# Altium schematic symbol library Microchip Power Management Battery Management.SchLib: 224 symbols (part 4 of 7)
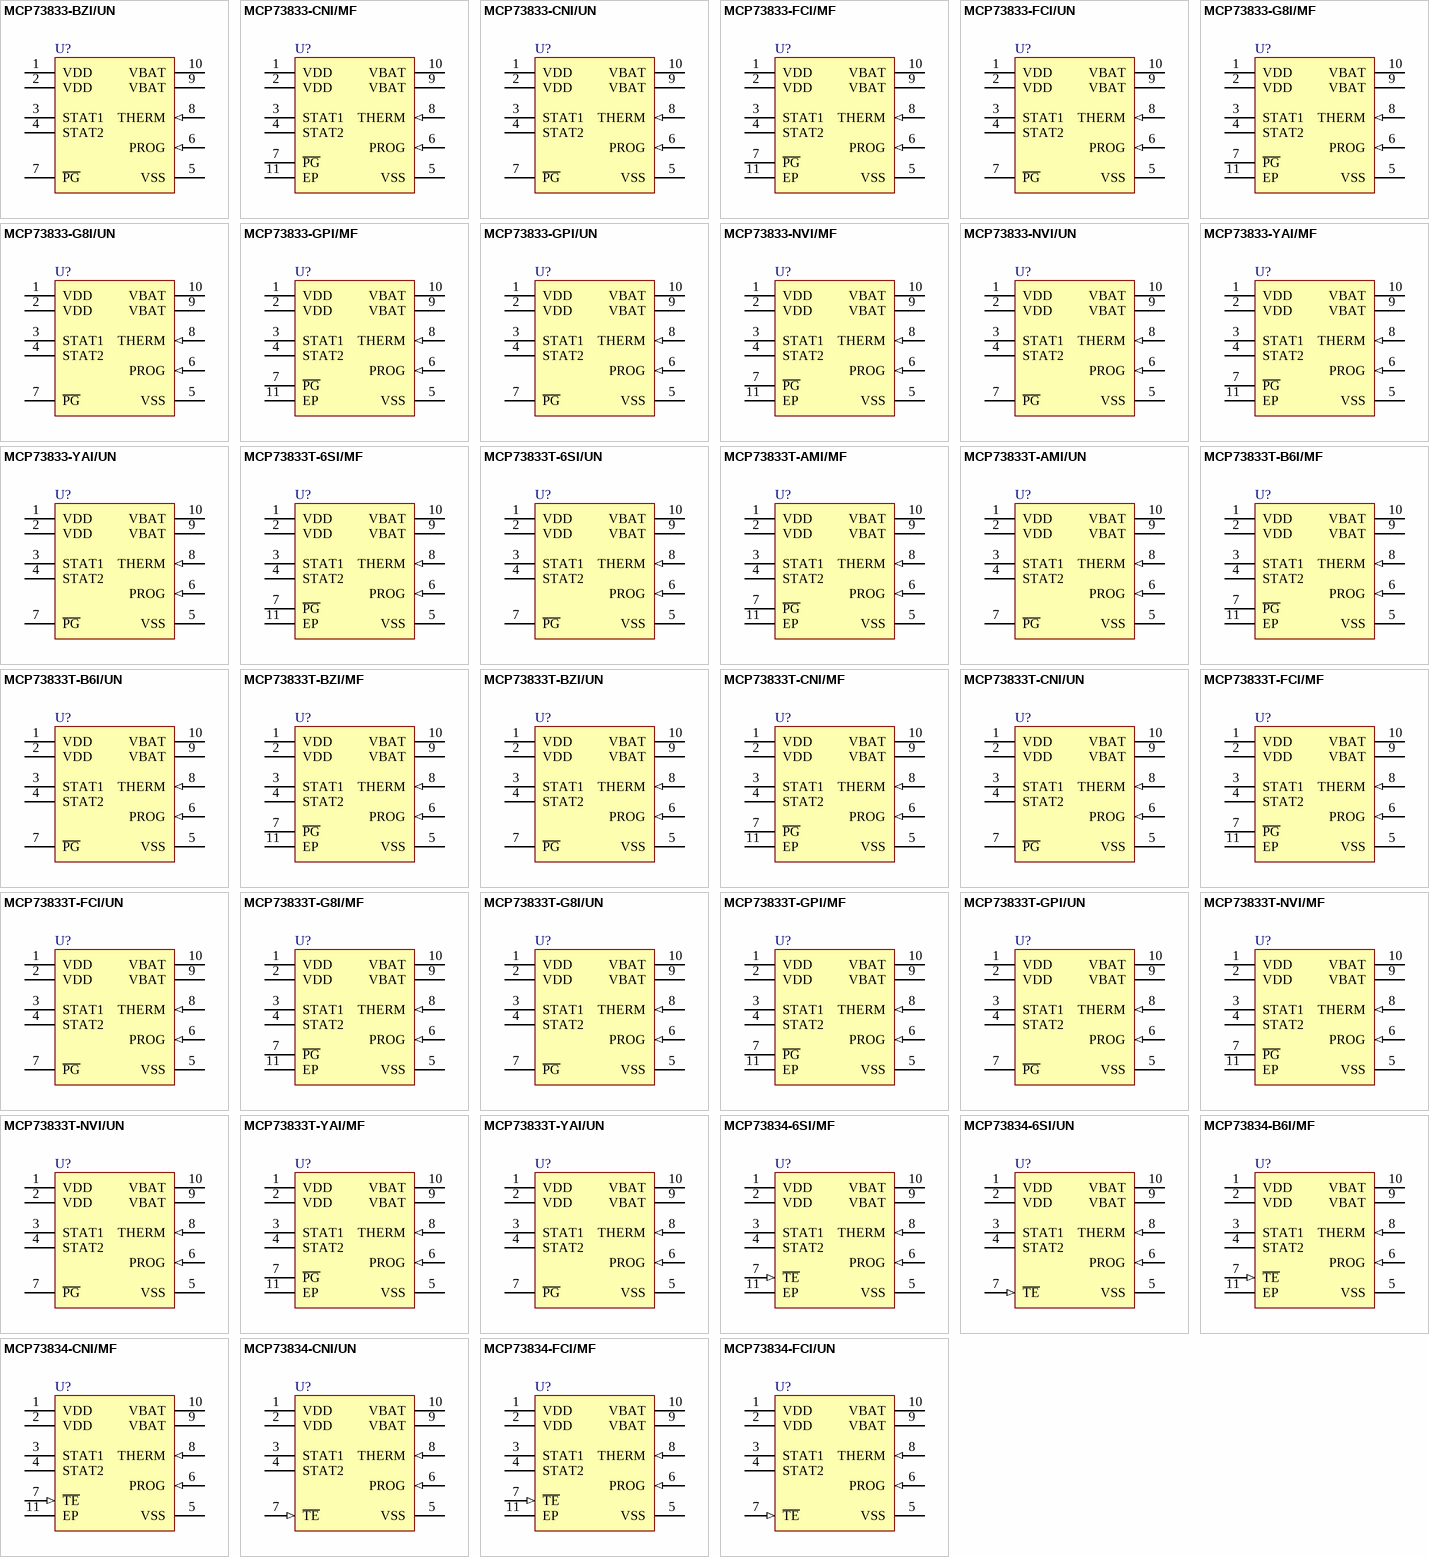
[diagram p9: symbols MCP73833-BZI/UN to MCP73834-FCI/UN]

## MCP73834-CNI/UN
designator U?
Stand-Alone Linear Li-Ion/Li-Polymer Charge Management Controller with Timer Enable, 4.2V, 10-Pin MSOP, Industrial Temperature; Manufacturer: Microchip; PartNumber: MCP73834-CNI/UN; DatasheetVersion: revB, May-2009; PackageVersion: revBB, Aug-2009; PackageReference: MSOP-UN10; PackageDescription: 10-Lead Plastic Micro Small Outline Package (UN) [MSOP]; Supplier 1: Digi-Key; Supplier Part Number 1: MCP73834-CNI/UN-ND; Supplier 2: Mouser; Supplier Part Number 2: 579-MCP73834-CNI/UN; Mounting Technology: Surface Mount; ComponentLink1Description: Manufacturer URL; ComponentLink1URL: http://www.microchip.com/; ComponentLink2Description: Datasheet; ComponentLink2URL: http://ww1.microchip.com/downloads/en/DeviceDoc/22005b.pdf; ComponentLink3Description: Package Specification; ComponentLink3URL: http://www.microchip.com/stellent/groups/techpub_sg/documents/packagingspec/en012702.pdf
footprint MSOP-UN10_N (TSSOP, 10-Leads, Body 3x3mm, Pitch 0.5mm, IPC Medium Density)
footprint MSOP-UN10_L (TSSOP, 10-Leads, Body 3x3mm, Pitch 0.5mm, IPC High Density)
footprint MSOP-UN10_M (TSSOP, 10-Leads, Body 3x3mm, Pitch 0.5mm, IPC Low Density)
pins: 1 VDD (power), 2 VDD (power), 3 STAT1 (oc), 4 STAT2 (oc), 5 VSS (power), 6 PROG (in), 7 ~{TE} (in), 8 THERM (in), 9 VBAT (power), 10 VBAT (power)

## MCP73834-FCI/MF
designator U?
Stand-Alone Linear Li-Ion/Li-Polymer Charge Management Controller with Timer Enable, 4.2V, 10-Pin DFN, Industrial Temperature; Manufacturer: Microchip; PartNumber: MCP73834-FCI/MF; DatasheetVersion: revB, May-2009; PackageVersion: revBB, Aug-2009; PackageReference: DFN-MF10; PackageDescription: 10-Lead Plastic Dual Flat, No Lead Package (MF) - 3x3x0.9mm Body [DFN]; Supplier 1: Digi-Key; Supplier Part Number 1: MCP73834-FCI/MF-ND; Supplier 2: Mouser; Supplier Part Number 2: 579-MCP73834-FCI/MF; Mounting Technology: Surface Mount; ComponentLink1Description: Manufacturer URL; ComponentLink1URL: http://www.microchip.com/; ComponentLink2Description: Datasheet; ComponentLink2URL: http://ww1.microchip.com/downloads/en/DeviceDoc/22005b.pdf; ComponentLink3Description: Package Specification; ComponentLink3URL: http://www.microchip.com/stellent/groups/techpub_sg/documents/packagingspec/en012702.pdf
footprint DFN-MF10 (SON, 10-Leads, Body 3x3mm, Pitch 0.5mm, Microchip Recommended)
pins: 1 VDD (power), 2 VDD (power), 3 STAT1 (oc), 4 STAT2 (oc), 5 VSS (power), 6 PROG (in), 7 ~{TE} (in), 8 THERM (in), 9 VBAT (power), 10 VBAT (power), 11 EP (power)

## MCP73834-FCI/UN
designator U?
Stand-Alone Linear Li-Ion/Li-Polymer Charge Management Controller with Timer Enable, 4.2V, 10-Pin MSOP, Industrial Temperature; Manufacturer: Microchip; PartNumber: MCP73834-FCI/UN; DatasheetVersion: revB, May-2009; PackageVersion: revBB, Aug-2009; PackageReference: MSOP-UN10; PackageDescription: 10-Lead Plastic Micro Small Outline Package (UN) [MSOP]; Supplier 1: Digi-Key; Supplier Part Number 1: MCP73834-FCI/UN-ND; Supplier 2: Farnell; Supplier Part Number 2: 1332162; Supplier 3: Newark; Supplier Part Number 3: 34M7503; Supplier 4: Mouser; Supplier Part Number 4: 579-MCP73834-FCI/UN; Mounting Technology: Surface Mount; ComponentLink1Description: Manufacturer URL; ComponentLink1URL: http://www.microchip.com/; ComponentLink2Description: Datasheet; ComponentLink2URL: http://ww1.microchip.com/downloads/en/DeviceDoc/22005b.pdf; ComponentLink3Description: Package Specification; ComponentLink3URL: http://www.microchip.com/stellent/groups/techpub_sg/documents/packagingspec/en012702.pdf
footprint MSOP-UN10_N (TSSOP, 10-Leads, Body 3x3mm, Pitch 0.5mm, IPC Medium Density)
footprint MSOP-UN10_L (TSSOP, 10-Leads, Body 3x3mm, Pitch 0.5mm, IPC High Density)
footprint MSOP-UN10_M (TSSOP, 10-Leads, Body 3x3mm, Pitch 0.5mm, IPC Low Density)
pins: 1 VDD (power), 2 VDD (power), 3 STAT1 (oc), 4 STAT2 (oc), 5 VSS (power), 6 PROG (in), 7 ~{TE} (in), 8 THERM (in), 9 VBAT (power), 10 VBAT (power)

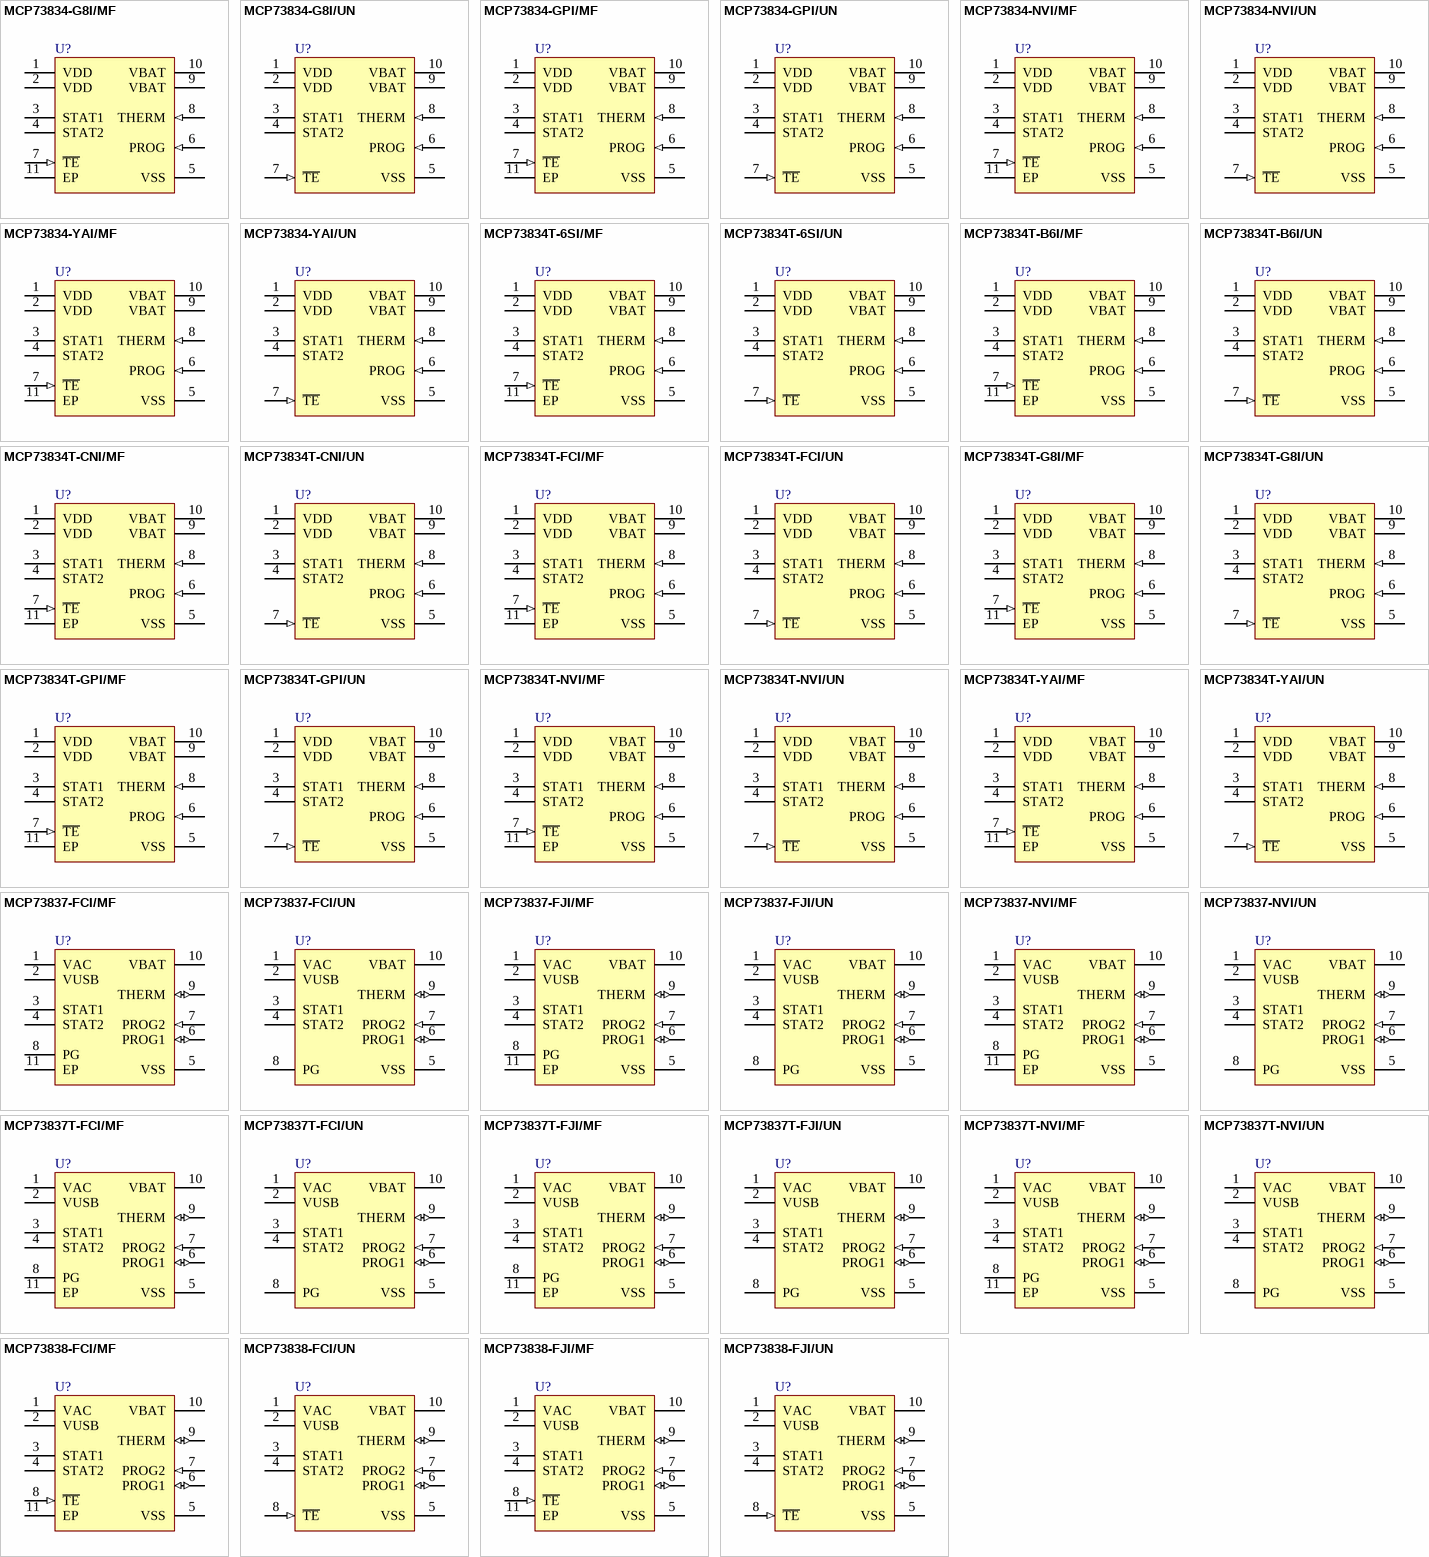
[diagram p3: symbols MCP73834-G8I/MF to MCP73838-FJI/UN]

## MCP73834-G8I/MF
designator U?
Stand-Alone Linear Li-Ion/Li-Polymer Charge Management Controller with Timer Enable, 4.2V, 10-Pin DFN, Industrial Temperature; Manufacturer: Microchip; PartNumber: MCP73834-G8I/MF; DatasheetVersion: revB, May-2009; PackageVersion: revBB, Aug-2009; PackageReference: DFN-MF10; PackageDescription: 10-Lead Plastic Dual Flat, No Lead Package (MF) - 3x3x0.9mm Body [DFN]; Mounting Technology: Surface Mount; ComponentLink1Description: Manufacturer URL; ComponentLink1URL: http://www.microchip.com/; ComponentLink2Description: Datasheet; ComponentLink2URL: http://ww1.microchip.com/downloads/en/DeviceDoc/22005b.pdf; ComponentLink3Description: Package Specification; ComponentLink3URL: http://www.microchip.com/stellent/groups/techpub_sg/documents/packagingspec/en012702.pdf
footprint DFN-MF10 (SON, 10-Leads, Body 3x3mm, Pitch 0.5mm, Microchip Recommended)
pins: 1 VDD (power), 2 VDD (power), 3 STAT1 (oc), 4 STAT2 (oc), 5 VSS (power), 6 PROG (in), 7 ~{TE} (in), 8 THERM (in), 9 VBAT (power), 10 VBAT (power), 11 EP (power)

## MCP73834-G8I/UN
designator U?
Stand-Alone Linear Li-Ion/Li-Polymer Charge Management Controller with Timer Enable, 4.2V, 10-Pin MSOP, Industrial Temperature; Manufacturer: Microchip; PartNumber: MCP73834-G8I/UN; DatasheetVersion: revB, May-2009; PackageVersion: revBB, Aug-2009; PackageReference: MSOP-UN10; PackageDescription: 10-Lead Plastic Micro Small Outline Package (UN) [MSOP]; Mounting Technology: Surface Mount; ComponentLink1Description: Manufacturer URL; ComponentLink1URL: http://www.microchip.com/; ComponentLink2Description: Datasheet; ComponentLink2URL: http://ww1.microchip.com/downloads/en/DeviceDoc/22005b.pdf; ComponentLink3Description: Package Specification; ComponentLink3URL: http://www.microchip.com/stellent/groups/techpub_sg/documents/packagingspec/en012702.pdf
footprint MSOP-UN10_N (TSSOP, 10-Leads, Body 3x3mm, Pitch 0.5mm, IPC Medium Density)
footprint MSOP-UN10_L (TSSOP, 10-Leads, Body 3x3mm, Pitch 0.5mm, IPC High Density)
footprint MSOP-UN10_M (TSSOP, 10-Leads, Body 3x3mm, Pitch 0.5mm, IPC Low Density)
pins: 1 VDD (power), 2 VDD (power), 3 STAT1 (oc), 4 STAT2 (oc), 5 VSS (power), 6 PROG (in), 7 ~{TE} (in), 8 THERM (in), 9 VBAT (power), 10 VBAT (power)

## MCP73834-GPI/MF
designator U?
Stand-Alone Linear Li-Ion/Li-Polymer Charge Management Controller with Timer Enable, 4.2V, 10-Pin DFN, Industrial Temperature; Manufacturer: Microchip; PartNumber: MCP73834-GPI/MF; DatasheetVersion: revB, May-2009; PackageVersion: revBB, Aug-2009; PackageReference: DFN-MF10; PackageDescription: 10-Lead Plastic Dual Flat, No Lead Package (MF) - 3x3x0.9mm Body [DFN]; Supplier 1: Digi-Key; Supplier Part Number 1: MCP73834-GPI/MF-ND; Supplier 2: Mouser; Supplier Part Number 2: 579-MCP73834-GPI/MF; Mounting Technology: Surface Mount; ComponentLink1Description: Manufacturer URL; ComponentLink1URL: http://www.microchip.com/; ComponentLink2Description: Datasheet; ComponentLink2URL: http://ww1.microchip.com/downloads/en/DeviceDoc/22005b.pdf; ComponentLink3Description: Package Specification; ComponentLink3URL: http://www.microchip.com/stellent/groups/techpub_sg/documents/packagingspec/en012702.pdf
footprint DFN-MF10 (SON, 10-Leads, Body 3x3mm, Pitch 0.5mm, Microchip Recommended)
pins: 1 VDD (power), 2 VDD (power), 3 STAT1 (oc), 4 STAT2 (oc), 5 VSS (power), 6 PROG (in), 7 ~{TE} (in), 8 THERM (in), 9 VBAT (power), 10 VBAT (power), 11 EP (power)

## MCP73834-GPI/UN
designator U?
Stand-Alone Linear Li-Ion/Li-Polymer Charge Management Controller with Timer Enable, 4.2V, 10-Pin MSOP, Industrial Temperature; Manufacturer: Microchip; PartNumber: MCP73834-GPI/UN; DatasheetVersion: revB, May-2009; PackageVersion: revBB, Aug-2009; PackageReference: MSOP-UN10; PackageDescription: 10-Lead Plastic Micro Small Outline Package (UN) [MSOP]; Supplier 1: Digi-Key; Supplier Part Number 1: MCP73834-GPI/UN-ND; Supplier 2: Mouser; Supplier Part Number 2: 579-MCP73834-GPI/UN; Mounting Technology: Surface Mount; ComponentLink1Description: Manufacturer URL; ComponentLink1URL: http://www.microchip.com/; ComponentLink2Description: Datasheet; ComponentLink2URL: http://ww1.microchip.com/downloads/en/DeviceDoc/22005b.pdf; ComponentLink3Description: Package Specification; ComponentLink3URL: http://www.microchip.com/stellent/groups/techpub_sg/documents/packagingspec/en012702.pdf
footprint MSOP-UN10_N (TSSOP, 10-Leads, Body 3x3mm, Pitch 0.5mm, IPC Medium Density)
footprint MSOP-UN10_L (TSSOP, 10-Leads, Body 3x3mm, Pitch 0.5mm, IPC High Density)
footprint MSOP-UN10_M (TSSOP, 10-Leads, Body 3x3mm, Pitch 0.5mm, IPC Low Density)
pins: 1 VDD (power), 2 VDD (power), 3 STAT1 (oc), 4 STAT2 (oc), 5 VSS (power), 6 PROG (in), 7 ~{TE} (in), 8 THERM (in), 9 VBAT (power), 10 VBAT (power)

## MCP73834-NVI/MF
designator U?
Stand-Alone Linear Li-Ion/Li-Polymer Charge Management Controller with Timer Enable, 4.35V, 10-Pin DFN, Industrial Temperature; Manufacturer: Microchip; PartNumber: MCP73834-NVI/MF; DatasheetVersion: revB, May-2009; PackageVersion: revBB, Aug-2009; PackageReference: DFN-MF10; PackageDescription: 10-Lead Plastic Dual Flat, No Lead Package (MF) - 3x3x0.9mm Body [DFN]; Supplier 1: Digi-Key; Supplier Part Number 1: MCP73834-NVI/MF-ND; Supplier 2: Mouser; Supplier Part Number 2: 579-MCP73834-NVI/MF; Mounting Technology: Surface Mount; ComponentLink1Description: Manufacturer URL; ComponentLink1URL: http://www.microchip.com/; ComponentLink2Description: Datasheet; ComponentLink2URL: http://ww1.microchip.com/downloads/en/DeviceDoc/22005b.pdf; ComponentLink3Description: Package Specification; ComponentLink3URL: http://www.microchip.com/stellent/groups/techpub_sg/documents/packagingspec/en012702.pdf
footprint DFN-MF10 (SON, 10-Leads, Body 3x3mm, Pitch 0.5mm, Microchip Recommended)
pins: 1 VDD (power), 2 VDD (power), 3 STAT1 (oc), 4 STAT2 (oc), 5 VSS (power), 6 PROG (in), 7 ~{TE} (in), 8 THERM (in), 9 VBAT (power), 10 VBAT (power), 11 EP (power)

## MCP73834-NVI/UN
designator U?
Stand-Alone Linear Li-Ion/Li-Polymer Charge Management Controller with Timer Enable, 4.35V, 10-Pin MSOP, Industrial Temperature; Manufacturer: Microchip; PartNumber: MCP73834-NVI/UN; DatasheetVersion: revB, May-2009; PackageVersion: revBB, Aug-2009; PackageReference: MSOP-UN10; PackageDescription: 10-Lead Plastic Micro Small Outline Package (UN) [MSOP]; Supplier 1: Digi-Key; Supplier Part Number 1: MCP73834-NVI/UN-ND; Supplier 2: Mouser; Supplier Part Number 2: 579-MCP73834-NVI/UN; Mounting Technology: Surface Mount; ComponentLink1Description: Manufacturer URL; ComponentLink1URL: http://www.microchip.com/; ComponentLink2Description: Datasheet; ComponentLink2URL: http://ww1.microchip.com/downloads/en/DeviceDoc/22005b.pdf; ComponentLink3Description: Package Specification; ComponentLink3URL: http://www.microchip.com/stellent/groups/techpub_sg/documents/packagingspec/en012702.pdf
footprint MSOP-UN10_N (TSSOP, 10-Leads, Body 3x3mm, Pitch 0.5mm, IPC Medium Density)
footprint MSOP-UN10_L (TSSOP, 10-Leads, Body 3x3mm, Pitch 0.5mm, IPC High Density)
footprint MSOP-UN10_M (TSSOP, 10-Leads, Body 3x3mm, Pitch 0.5mm, IPC Low Density)
pins: 1 VDD (power), 2 VDD (power), 3 STAT1 (oc), 4 STAT2 (oc), 5 VSS (power), 6 PROG (in), 7 ~{TE} (in), 8 THERM (in), 9 VBAT (power), 10 VBAT (power)

## MCP73834-YAI/MF
designator U?
Stand-Alone Linear Li-Ion/Li-Polymer Charge Management Controller with Timer Enable, 4.2V, 10-Pin DFN, Industrial Temperature; Manufacturer: Microchip; PartNumber: MCP73834-YAI/MF; DatasheetVersion: revB, May-2009; PackageVersion: revBB, Aug-2009; PackageReference: DFN-MF10; PackageDescription: 10-Lead Plastic Dual Flat, No Lead Package (MF) - 3x3x0.9mm Body [DFN]; Mounting Technology: Surface Mount; ComponentLink1Description: Manufacturer URL; ComponentLink1URL: http://www.microchip.com/; ComponentLink2Description: Datasheet; ComponentLink2URL: http://ww1.microchip.com/downloads/en/DeviceDoc/22005b.pdf; ComponentLink3Description: Package Specification; ComponentLink3URL: http://www.microchip.com/stellent/groups/techpub_sg/documents/packagingspec/en012702.pdf
footprint DFN-MF10 (SON, 10-Leads, Body 3x3mm, Pitch 0.5mm, Microchip Recommended)
pins: 1 VDD (power), 2 VDD (power), 3 STAT1 (oc), 4 STAT2 (oc), 5 VSS (power), 6 PROG (in), 7 ~{TE} (in), 8 THERM (in), 9 VBAT (power), 10 VBAT (power), 11 EP (power)

## MCP73834-YAI/UN
designator U?
Stand-Alone Linear Li-Ion/Li-Polymer Charge Management Controller with Timer Enable, 4.2V, 10-Pin MSOP, Industrial Temperature; Manufacturer: Microchip; PartNumber: MCP73834-YAI/UN; DatasheetVersion: revB, May-2009; PackageVersion: revBB, Aug-2009; PackageReference: MSOP-UN10; PackageDescription: 10-Lead Plastic Micro Small Outline Package (UN) [MSOP]; Mounting Technology: Surface Mount; ComponentLink1Description: Manufacturer URL; ComponentLink1URL: http://www.microchip.com/; ComponentLink2Description: Datasheet; ComponentLink2URL: http://ww1.microchip.com/downloads/en/DeviceDoc/22005b.pdf; ComponentLink3Description: Package Specification; ComponentLink3URL: http://www.microchip.com/stellent/groups/techpub_sg/documents/packagingspec/en012702.pdf
footprint MSOP-UN10_N (TSSOP, 10-Leads, Body 3x3mm, Pitch 0.5mm, IPC Medium Density)
footprint MSOP-UN10_L (TSSOP, 10-Leads, Body 3x3mm, Pitch 0.5mm, IPC High Density)
footprint MSOP-UN10_M (TSSOP, 10-Leads, Body 3x3mm, Pitch 0.5mm, IPC Low Density)
pins: 1 VDD (power), 2 VDD (power), 3 STAT1 (oc), 4 STAT2 (oc), 5 VSS (power), 6 PROG (in), 7 ~{TE} (in), 8 THERM (in), 9 VBAT (power), 10 VBAT (power)

## MCP73834T-6SI/MF
designator U?
Stand-Alone Linear Li-Ion/Li-Polymer Charge Management Controller with Timer Enable, 4.2V, 10-Pin DFN, Industrial Temperature, Tape and Reel; Manufacturer: Microchip; PartNumber: MCP73834T-6SI/MF; DatasheetVersion: revB, May-2009; PackageVersion: revBB, Aug-2009; PackageReference: DFN-MF10; PackageDescription: 10-Lead Plastic Dual Flat, No Lead Package (MF) - 3x3x0.9mm Body [DFN]; Mounting Technology: Surface Mount; ComponentLink1Description: Manufacturer URL; ComponentLink1URL: http://www.microchip.com/; ComponentLink2Description: Datasheet; ComponentLink2URL: http://ww1.microchip.com/downloads/en/DeviceDoc/22005b.pdf; ComponentLink3Description: Package Specification; ComponentLink3URL: http://www.microchip.com/stellent/groups/techpub_sg/documents/packagingspec/en012702.pdf
footprint DFN-MF10 (SON, 10-Leads, Body 3x3mm, Pitch 0.5mm, Microchip Recommended)
pins: 1 VDD (power), 2 VDD (power), 3 STAT1 (oc), 4 STAT2 (oc), 5 VSS (power), 6 PROG (in), 7 ~{TE} (in), 8 THERM (in), 9 VBAT (power), 10 VBAT (power), 11 EP (power)

## MCP73834T-6SI/UN
designator U?
Stand-Alone Linear Li-Ion/Li-Polymer Charge Management Controller with Timer Enable, 4.2V, 10-Pin MSOP, Industrial Temperature, Tape and Reel; Manufacturer: Microchip; PartNumber: MCP73834T-6SI/UN; DatasheetVersion: revB, May-2009; PackageVersion: revBB, Aug-2009; PackageReference: MSOP-UN10; PackageDescription: 10-Lead Plastic Micro Small Outline Package (UN) [MSOP]; Mounting Technology: Surface Mount; ComponentLink1Description: Manufacturer URL; ComponentLink1URL: http://www.microchip.com/; ComponentLink2Description: Datasheet; ComponentLink2URL: http://ww1.microchip.com/downloads/en/DeviceDoc/22005b.pdf; ComponentLink3Description: Package Specification; ComponentLink3URL: http://www.microchip.com/stellent/groups/techpub_sg/documents/packagingspec/en012702.pdf
footprint MSOP-UN10_N (TSSOP, 10-Leads, Body 3x3mm, Pitch 0.5mm, IPC Medium Density)
footprint MSOP-UN10_L (TSSOP, 10-Leads, Body 3x3mm, Pitch 0.5mm, IPC High Density)
footprint MSOP-UN10_M (TSSOP, 10-Leads, Body 3x3mm, Pitch 0.5mm, IPC Low Density)
pins: 1 VDD (power), 2 VDD (power), 3 STAT1 (oc), 4 STAT2 (oc), 5 VSS (power), 6 PROG (in), 7 ~{TE} (in), 8 THERM (in), 9 VBAT (power), 10 VBAT (power)

## MCP73834T-B6I/MF
designator U?
Stand-Alone Linear Li-Ion/Li-Polymer Charge Management Controller with Timer Enable, 4.2V, 10-Pin DFN, Industrial Temperature, Tape and Reel; Manufacturer: Microchip; PartNumber: MCP73834T-B6I/MF; DatasheetVersion: revB, May-2009; PackageVersion: revBB, Aug-2009; PackageReference: DFN-MF10; PackageDescription: 10-Lead Plastic Dual Flat, No Lead Package (MF) - 3x3x0.9mm Body [DFN]; Supplier 1: Digi-Key; Supplier Part Number 1: MCP73834T-B6I/MF-ND; Supplier 2: Mouser; Supplier Part Number 2: 579-MCP73834T-B6I/MF; Mounting Technology: Surface Mount; ComponentLink1Description: Manufacturer URL; ComponentLink1URL: http://www.microchip.com/; ComponentLink2Description: Datasheet; ComponentLink2URL: http://ww1.microchip.com/downloads/en/DeviceDoc/22005b.pdf; ComponentLink3Description: Package Specification; ComponentLink3URL: http://www.microchip.com/stellent/groups/techpub_sg/documents/packagingspec/en012702.pdf
footprint DFN-MF10 (SON, 10-Leads, Body 3x3mm, Pitch 0.5mm, Microchip Recommended)
pins: 1 VDD (power), 2 VDD (power), 3 STAT1 (oc), 4 STAT2 (oc), 5 VSS (power), 6 PROG (in), 7 ~{TE} (in), 8 THERM (in), 9 VBAT (power), 10 VBAT (power), 11 EP (power)

## MCP73834T-B6I/UN
designator U?
Stand-Alone Linear Li-Ion/Li-Polymer Charge Management Controller with Timer Enable, 4.2V, 10-Pin MSOP, Industrial Temperature, Tape and Reel; Manufacturer: Microchip; PartNumber: MCP73834T-B6I/UN; DatasheetVersion: revB, May-2009; PackageVersion: revBB, Aug-2009; PackageReference: MSOP-UN10; PackageDescription: 10-Lead Plastic Micro Small Outline Package (UN) [MSOP]; Supplier 1: Digi-Key; Supplier Part Number 1: MCP73834T-B6I/UN-ND; Supplier 2: Mouser; Supplier Part Number 2: 579-MCP73834T-B6I/UN; Mounting Technology: Surface Mount; ComponentLink1Description: Manufacturer URL; ComponentLink1URL: http://www.microchip.com/; ComponentLink2Description: Datasheet; ComponentLink2URL: http://ww1.microchip.com/downloads/en/DeviceDoc/22005b.pdf; ComponentLink3Description: Package Specification; ComponentLink3URL: http://www.microchip.com/stellent/groups/techpub_sg/documents/packagingspec/en012702.pdf
footprint MSOP-UN10_N (TSSOP, 10-Leads, Body 3x3mm, Pitch 0.5mm, IPC Medium Density)
footprint MSOP-UN10_L (TSSOP, 10-Leads, Body 3x3mm, Pitch 0.5mm, IPC High Density)
footprint MSOP-UN10_M (TSSOP, 10-Leads, Body 3x3mm, Pitch 0.5mm, IPC Low Density)
pins: 1 VDD (power), 2 VDD (power), 3 STAT1 (oc), 4 STAT2 (oc), 5 VSS (power), 6 PROG (in), 7 ~{TE} (in), 8 THERM (in), 9 VBAT (power), 10 VBAT (power)

## MCP73834T-CNI/MF
designator U?
Stand-Alone Linear Li-Ion/Li-Polymer Charge Management Controller with Timer Enable, 4.2V, 10-Pin DFN, Industrial Temperature, Tape and Reel; Manufacturer: Microchip; PartNumber: MCP73834T-CNI/MF; DatasheetVersion: revB, May-2009; PackageVersion: revBB, Aug-2009; PackageReference: DFN-MF10; PackageDescription: 10-Lead Plastic Dual Flat, No Lead Package (MF) - 3x3x0.9mm Body [DFN]; Supplier 1: Digi-Key; Supplier Part Number 1: MCP73834T-CNI/MF-ND; Supplier 2: Mouser; Supplier Part Number 2: 579-MCP73834T-CNI/MF; Mounting Technology: Surface Mount; ComponentLink1Description: Manufacturer URL; ComponentLink1URL: http://www.microchip.com/; ComponentLink2Description: Datasheet; ComponentLink2URL: http://ww1.microchip.com/downloads/en/DeviceDoc/22005b.pdf; ComponentLink3Description: Package Specification; ComponentLink3URL: http://www.microchip.com/stellent/groups/techpub_sg/documents/packagingspec/en012702.pdf
footprint DFN-MF10 (SON, 10-Leads, Body 3x3mm, Pitch 0.5mm, Microchip Recommended)
pins: 1 VDD (power), 2 VDD (power), 3 STAT1 (oc), 4 STAT2 (oc), 5 VSS (power), 6 PROG (in), 7 ~{TE} (in), 8 THERM (in), 9 VBAT (power), 10 VBAT (power), 11 EP (power)

## MCP73834T-CNI/UN
designator U?
Stand-Alone Linear Li-Ion/Li-Polymer Charge Management Controller with Timer Enable, 4.2V, 10-Pin MSOP, Industrial Temperature, Tape and Reel; Manufacturer: Microchip; PartNumber: MCP73834T-CNI/UN; DatasheetVersion: revB, May-2009; PackageVersion: revBB, Aug-2009; PackageReference: MSOP-UN10; PackageDescription: 10-Lead Plastic Micro Small Outline Package (UN) [MSOP]; Supplier 1: Digi-Key; Supplier Part Number 1: MCP73834T-CNI/UN-ND; Supplier 2: Mouser; Supplier Part Number 2: 579-MCP73834T-CNI/UN; Mounting Technology: Surface Mount; ComponentLink1Description: Manufacturer URL; ComponentLink1URL: http://www.microchip.com/; ComponentLink2Description: Datasheet; ComponentLink2URL: http://ww1.microchip.com/downloads/en/DeviceDoc/22005b.pdf; ComponentLink3Description: Package Specification; ComponentLink3URL: http://www.microchip.com/stellent/groups/techpub_sg/documents/packagingspec/en012702.pdf
footprint MSOP-UN10_N (TSSOP, 10-Leads, Body 3x3mm, Pitch 0.5mm, IPC Medium Density)
footprint MSOP-UN10_L (TSSOP, 10-Leads, Body 3x3mm, Pitch 0.5mm, IPC High Density)
footprint MSOP-UN10_M (TSSOP, 10-Leads, Body 3x3mm, Pitch 0.5mm, IPC Low Density)
pins: 1 VDD (power), 2 VDD (power), 3 STAT1 (oc), 4 STAT2 (oc), 5 VSS (power), 6 PROG (in), 7 ~{TE} (in), 8 THERM (in), 9 VBAT (power), 10 VBAT (power)

## MCP73834T-FCI/MF
designator U?
Stand-Alone Linear Li-Ion/Li-Polymer Charge Management Controller with Timer Enable, 4.2V, 10-Pin DFN, Industrial Temperature, Tape and Reel; Manufacturer: Microchip; PartNumber: MCP73834T-FCI/MF; DatasheetVersion: revB, May-2009; PackageVersion: revBB, Aug-2009; PackageReference: DFN-MF10; PackageDescription: 10-Lead Plastic Dual Flat, No Lead Package (MF) - 3x3x0.9mm Body [DFN]; Supplier 1: Digi-Key; Supplier Part Number 1: MCP73834T-FCI/MF-ND; Supplier 2: Mouser; Supplier Part Number 2: 579-MCP73834T-FCI/MF; Mounting Technology: Surface Mount; ComponentLink1Description: Manufacturer URL; ComponentLink1URL: http://www.microchip.com/; ComponentLink2Description: Datasheet; ComponentLink2URL: http://ww1.microchip.com/downloads/en/DeviceDoc/22005b.pdf; ComponentLink3Description: Package Specification; ComponentLink3URL: http://www.microchip.com/stellent/groups/techpub_sg/documents/packagingspec/en012702.pdf
footprint DFN-MF10 (SON, 10-Leads, Body 3x3mm, Pitch 0.5mm, Microchip Recommended)
pins: 1 VDD (power), 2 VDD (power), 3 STAT1 (oc), 4 STAT2 (oc), 5 VSS (power), 6 PROG (in), 7 ~{TE} (in), 8 THERM (in), 9 VBAT (power), 10 VBAT (power), 11 EP (power)

## MCP73834T-FCI/UN
designator U?
Stand-Alone Linear Li-Ion/Li-Polymer Charge Management Controller with Timer Enable, 4.2V, 10-Pin MSOP, Industrial Temperature, Tape and Reel; Manufacturer: Microchip; PartNumber: MCP73834T-FCI/UN; DatasheetVersion: revB, May-2009; PackageVersion: revBB, Aug-2009; PackageReference: MSOP-UN10; PackageDescription: 10-Lead Plastic Micro Small Outline Package (UN) [MSOP]; Supplier 1: Digi-Key; Supplier Part Number 1: MCP73834T-FCI/UN-ND; Supplier 2: Mouser; Supplier Part Number 2: 579-MCP73834T-FCI/UN; Mounting Technology: Surface Mount; ComponentLink1Description: Manufacturer URL; ComponentLink1URL: http://www.microchip.com/; ComponentLink2Description: Datasheet; ComponentLink2URL: http://ww1.microchip.com/downloads/en/DeviceDoc/22005b.pdf; ComponentLink3Description: Package Specification; ComponentLink3URL: http://www.microchip.com/stellent/groups/techpub_sg/documents/packagingspec/en012702.pdf
footprint MSOP-UN10_N (TSSOP, 10-Leads, Body 3x3mm, Pitch 0.5mm, IPC Medium Density)
footprint MSOP-UN10_L (TSSOP, 10-Leads, Body 3x3mm, Pitch 0.5mm, IPC High Density)
footprint MSOP-UN10_M (TSSOP, 10-Leads, Body 3x3mm, Pitch 0.5mm, IPC Low Density)
pins: 1 VDD (power), 2 VDD (power), 3 STAT1 (oc), 4 STAT2 (oc), 5 VSS (power), 6 PROG (in), 7 ~{TE} (in), 8 THERM (in), 9 VBAT (power), 10 VBAT (power)

## MCP73834T-G8I/MF
designator U?
Stand-Alone Linear Li-Ion/Li-Polymer Charge Management Controller with Timer Enable, 4.2V, 10-Pin DFN, Industrial Temperature, Tape and Reel; Manufacturer: Microchip; PartNumber: MCP73834T-G8I/MF; DatasheetVersion: revB, May-2009; PackageVersion: revBB, Aug-2009; PackageReference: DFN-MF10; PackageDescription: 10-Lead Plastic Dual Flat, No Lead Package (MF) - 3x3x0.9mm Body [DFN]; Mounting Technology: Surface Mount; ComponentLink1Description: Manufacturer URL; ComponentLink1URL: http://www.microchip.com/; ComponentLink2Description: Datasheet; ComponentLink2URL: http://ww1.microchip.com/downloads/en/DeviceDoc/22005b.pdf; ComponentLink3Description: Package Specification; ComponentLink3URL: http://www.microchip.com/stellent/groups/techpub_sg/documents/packagingspec/en012702.pdf
footprint DFN-MF10 (SON, 10-Leads, Body 3x3mm, Pitch 0.5mm, Microchip Recommended)
pins: 1 VDD (power), 2 VDD (power), 3 STAT1 (oc), 4 STAT2 (oc), 5 VSS (power), 6 PROG (in), 7 ~{TE} (in), 8 THERM (in), 9 VBAT (power), 10 VBAT (power), 11 EP (power)

## MCP73834T-G8I/UN
designator U?
Stand-Alone Linear Li-Ion/Li-Polymer Charge Management Controller with Timer Enable, 4.2V, 10-Pin MSOP, Industrial Temperature, Tape and Reel; Manufacturer: Microchip; PartNumber: MCP73834T-G8I/UN; DatasheetVersion: revB, May-2009; PackageVersion: revBB, Aug-2009; PackageReference: MSOP-UN10; PackageDescription: 10-Lead Plastic Micro Small Outline Package (UN) [MSOP]; Mounting Technology: Surface Mount; ComponentLink1Description: Manufacturer URL; ComponentLink1URL: http://www.microchip.com/; ComponentLink2Description: Datasheet; ComponentLink2URL: http://ww1.microchip.com/downloads/en/DeviceDoc/22005b.pdf; ComponentLink3Description: Package Specification; ComponentLink3URL: http://www.microchip.com/stellent/groups/techpub_sg/documents/packagingspec/en012702.pdf
footprint MSOP-UN10_N (TSSOP, 10-Leads, Body 3x3mm, Pitch 0.5mm, IPC Medium Density)
footprint MSOP-UN10_L (TSSOP, 10-Leads, Body 3x3mm, Pitch 0.5mm, IPC High Density)
footprint MSOP-UN10_M (TSSOP, 10-Leads, Body 3x3mm, Pitch 0.5mm, IPC Low Density)
pins: 1 VDD (power), 2 VDD (power), 3 STAT1 (oc), 4 STAT2 (oc), 5 VSS (power), 6 PROG (in), 7 ~{TE} (in), 8 THERM (in), 9 VBAT (power), 10 VBAT (power)

## MCP73834T-GPI/MF
designator U?
Stand-Alone Linear Li-Ion/Li-Polymer Charge Management Controller with Timer Enable, 4.2V, 10-Pin DFN, Industrial Temperature, Tape and Reel; Manufacturer: Microchip; PartNumber: MCP73834T-GPI/MF; DatasheetVersion: revB, May-2009; PackageVersion: revBB, Aug-2009; PackageReference: DFN-MF10; PackageDescription: 10-Lead Plastic Dual Flat, No Lead Package (MF) - 3x3x0.9mm Body [DFN]; Supplier 1: Digi-Key; Supplier Part Number 1: MCP73834T-GPI/MF-ND; Supplier 2: Mouser; Supplier Part Number 2: 579-MCP73834T-GPI/MF; Mounting Technology: Surface Mount; ComponentLink1Description: Manufacturer URL; ComponentLink1URL: http://www.microchip.com/; ComponentLink2Description: Datasheet; ComponentLink2URL: http://ww1.microchip.com/downloads/en/DeviceDoc/22005b.pdf; ComponentLink3Description: Package Specification; ComponentLink3URL: http://www.microchip.com/stellent/groups/techpub_sg/documents/packagingspec/en012702.pdf
footprint DFN-MF10 (SON, 10-Leads, Body 3x3mm, Pitch 0.5mm, Microchip Recommended)
pins: 1 VDD (power), 2 VDD (power), 3 STAT1 (oc), 4 STAT2 (oc), 5 VSS (power), 6 PROG (in), 7 ~{TE} (in), 8 THERM (in), 9 VBAT (power), 10 VBAT (power), 11 EP (power)

## MCP73834T-GPI/UN
designator U?
Stand-Alone Linear Li-Ion/Li-Polymer Charge Management Controller with Timer Enable, 4.2V, 10-Pin MSOP, Industrial Temperature, Tape and Reel; Manufacturer: Microchip; PartNumber: MCP73834T-GPI/UN; DatasheetVersion: revB, May-2009; PackageVersion: revBB, Aug-2009; PackageReference: MSOP-UN10; PackageDescription: 10-Lead Plastic Micro Small Outline Package (UN) [MSOP]; Supplier 1: Digi-Key; Supplier Part Number 1: MCP73834T-GPI/UN-ND; Supplier 2: Mouser; Supplier Part Number 2: 579-MCP73834T-GPI/UN; Mounting Technology: Surface Mount; ComponentLink1Description: Manufacturer URL; ComponentLink1URL: http://www.microchip.com/; ComponentLink2Description: Datasheet; ComponentLink2URL: http://ww1.microchip.com/downloads/en/DeviceDoc/22005b.pdf; ComponentLink3Description: Package Specification; ComponentLink3URL: http://www.microchip.com/stellent/groups/techpub_sg/documents/packagingspec/en012702.pdf
footprint MSOP-UN10_N (TSSOP, 10-Leads, Body 3x3mm, Pitch 0.5mm, IPC Medium Density)
footprint MSOP-UN10_L (TSSOP, 10-Leads, Body 3x3mm, Pitch 0.5mm, IPC High Density)
footprint MSOP-UN10_M (TSSOP, 10-Leads, Body 3x3mm, Pitch 0.5mm, IPC Low Density)
pins: 1 VDD (power), 2 VDD (power), 3 STAT1 (oc), 4 STAT2 (oc), 5 VSS (power), 6 PROG (in), 7 ~{TE} (in), 8 THERM (in), 9 VBAT (power), 10 VBAT (power)

## MCP73834T-NVI/MF
designator U?
Stand-Alone Linear Li-Ion/Li-Polymer Charge Management Controller with Timer Enable, 4.35V, 10-Pin DFN, Industrial Temperature, Tape and Reel; Manufacturer: Microchip; PartNumber: MCP73834T-NVI/MF; DatasheetVersion: revB, May-2009; PackageVersion: revBB, Aug-2009; PackageReference: DFN-MF10; PackageDescription: 10-Lead Plastic Dual Flat, No Lead Package (MF) - 3x3x0.9mm Body [DFN]; Supplier 1: Digi-Key; Supplier Part Number 1: MCP73834T-NVI/MF-ND; Supplier 2: Mouser; Supplier Part Number 2: 579-MCP73834T-NVI/MF; Mounting Technology: Surface Mount; ComponentLink1Description: Manufacturer URL; ComponentLink1URL: http://www.microchip.com/; ComponentLink2Description: Datasheet; ComponentLink2URL: http://ww1.microchip.com/downloads/en/DeviceDoc/22005b.pdf; ComponentLink3Description: Package Specification; ComponentLink3URL: http://www.microchip.com/stellent/groups/techpub_sg/documents/packagingspec/en012702.pdf
footprint DFN-MF10 (SON, 10-Leads, Body 3x3mm, Pitch 0.5mm, Microchip Recommended)
pins: 1 VDD (power), 2 VDD (power), 3 STAT1 (oc), 4 STAT2 (oc), 5 VSS (power), 6 PROG (in), 7 ~{TE} (in), 8 THERM (in), 9 VBAT (power), 10 VBAT (power), 11 EP (power)

## MCP73834T-NVI/UN
designator U?
Stand-Alone Linear Li-Ion/Li-Polymer Charge Management Controller with Timer Enable, 4.35V, 10-Pin MSOP, Industrial Temperature, Tape and Reel; Manufacturer: Microchip; PartNumber: MCP73834T-NVI/UN; DatasheetVersion: revB, May-2009; PackageVersion: revBB, Aug-2009; PackageReference: MSOP-UN10; PackageDescription: 10-Lead Plastic Micro Small Outline Package (UN) [MSOP]; Supplier 1: Digi-Key; Supplier Part Number 1: MCP73834T-NVI/UN-ND; Supplier 2: Mouser; Supplier Part Number 2: 579-MCP73834T-NVI/UN; Mounting Technology: Surface Mount; ComponentLink1Description: Manufacturer URL; ComponentLink1URL: http://www.microchip.com/; ComponentLink2Description: Datasheet; ComponentLink2URL: http://ww1.microchip.com/downloads/en/DeviceDoc/22005b.pdf; ComponentLink3Description: Package Specification; ComponentLink3URL: http://www.microchip.com/stellent/groups/techpub_sg/documents/packagingspec/en012702.pdf
footprint MSOP-UN10_N (TSSOP, 10-Leads, Body 3x3mm, Pitch 0.5mm, IPC Medium Density)
footprint MSOP-UN10_L (TSSOP, 10-Leads, Body 3x3mm, Pitch 0.5mm, IPC High Density)
footprint MSOP-UN10_M (TSSOP, 10-Leads, Body 3x3mm, Pitch 0.5mm, IPC Low Density)
pins: 1 VDD (power), 2 VDD (power), 3 STAT1 (oc), 4 STAT2 (oc), 5 VSS (power), 6 PROG (in), 7 ~{TE} (in), 8 THERM (in), 9 VBAT (power), 10 VBAT (power)

## MCP73834T-YAI/MF
designator U?
Stand-Alone Linear Li-Ion/Li-Polymer Charge Management Controller with Timer Enable, 4.2V, 10-Pin DFN, Industrial Temperature, Tape and Reel; Manufacturer: Microchip; PartNumber: MCP73834T-YAI/MF; DatasheetVersion: revB, May-2009; PackageVersion: revBB, Aug-2009; PackageReference: DFN-MF10; PackageDescription: 10-Lead Plastic Dual Flat, No Lead Package (MF) - 3x3x0.9mm Body [DFN]; Mounting Technology: Surface Mount; ComponentLink1Description: Manufacturer URL; ComponentLink1URL: http://www.microchip.com/; ComponentLink2Description: Datasheet; ComponentLink2URL: http://ww1.microchip.com/downloads/en/DeviceDoc/22005b.pdf; ComponentLink3Description: Package Specification; ComponentLink3URL: http://www.microchip.com/stellent/groups/techpub_sg/documents/packagingspec/en012702.pdf
footprint DFN-MF10 (SON, 10-Leads, Body 3x3mm, Pitch 0.5mm, Microchip Recommended)
pins: 1 VDD (power), 2 VDD (power), 3 STAT1 (oc), 4 STAT2 (oc), 5 VSS (power), 6 PROG (in), 7 ~{TE} (in), 8 THERM (in), 9 VBAT (power), 10 VBAT (power), 11 EP (power)

## MCP73834T-YAI/UN
designator U?
Stand-Alone Linear Li-Ion/Li-Polymer Charge Management Controller with Timer Enable, 4.2V, 10-Pin MSOP, Industrial Temperature, Tape and Reel; Manufacturer: Microchip; PartNumber: MCP73834T-YAI/UN; DatasheetVersion: revB, May-2009; PackageVersion: revBB, Aug-2009; PackageReference: MSOP-UN10; PackageDescription: 10-Lead Plastic Micro Small Outline Package (UN) [MSOP]; Mounting Technology: Surface Mount; ComponentLink1Description: Manufacturer URL; ComponentLink1URL: http://www.microchip.com/; ComponentLink2Description: Datasheet; ComponentLink2URL: http://ww1.microchip.com/downloads/en/DeviceDoc/22005b.pdf; ComponentLink3Description: Package Specification; ComponentLink3URL: http://www.microchip.com/stellent/groups/techpub_sg/documents/packagingspec/en012702.pdf
footprint MSOP-UN10_N (TSSOP, 10-Leads, Body 3x3mm, Pitch 0.5mm, IPC Medium Density)
footprint MSOP-UN10_L (TSSOP, 10-Leads, Body 3x3mm, Pitch 0.5mm, IPC High Density)
footprint MSOP-UN10_M (TSSOP, 10-Leads, Body 3x3mm, Pitch 0.5mm, IPC Low Density)
pins: 1 VDD (power), 2 VDD (power), 3 STAT1 (oc), 4 STAT2 (oc), 5 VSS (power), 6 PROG (in), 7 ~{TE} (in), 8 THERM (in), 9 VBAT (power), 10 VBAT (power)

## MCP73837-FCI/MF
designator U?
Stand-Alone Li-Ion/Li-Polymer Battery Charge Management Controller with Autonomous AC-Adapter or USB-Port Source Selection, 4.2V, 10-Pin DFN, Industrial Temperature; Manufacturer: Microchip; PartNumber: MCP73837-FCI/MF; DatasheetVersion: revA, Nov-2007; PackageVersion: revBB, Aug-2009; PackageReference: DFN-MF10; PackageDescription: 10-Lead Plastic Dual Flat, No Lead Package (MF) - 3x3x0.9mm Body [DFN]; Supplier 1: Digi-Key; Supplier Part Number 1: MCP73837-FCI/MF-ND; Supplier 2: Farnell; Supplier Part Number 2: 1578450; Supplier 3: Newark; Supplier Part Number 3: 40M0755; Supplier 4: Mouser; Supplier Part Number 4: 579-MCP73837-FCI/MF; Mounting Technology: Surface Mount; ComponentLink1Description: Manufacturer URL; ComponentLink1URL: http://www.microchip.com/; ComponentLink2Description: Datasheet; ComponentLink2URL: http://ww1.microchip.com/downloads/en/DeviceDoc/22071a.pdf; ComponentLink3Description: Package Specification; ComponentLink3URL: http://www.microchip.com/stellent/groups/techpub_sg/documents/packagingspec/en012702.pdf
footprint DFN-MF10 (SON, 10-Leads, Body 3x3mm, Pitch 0.5mm, Microchip Recommended)
pins: 1 VAC (power), 2 VUSB (power), 3 STAT1 (oc), 4 STAT2 (oc), 5 VSS (power), 6 PROG1 (io), 7 PROG2 (in), 8 PG (oc), 9 THERM (io), 10 VBAT (power), 11 EP (power)

## MCP73837-FCI/UN
designator U?
Stand-Alone Li-Ion/Li-Polymer Battery Charge Management Controller with Autonomous AC-Adapter or USB-Port Source Selection, 4.2V, 10-Pin MSOP, Industrial Temperature; Manufacturer: Microchip; PartNumber: MCP73837-FCI/UN; DatasheetVersion: revA, Nov-2007; PackageVersion: revBB, Aug-2009; PackageReference: MSOP-UN10; PackageDescription: 10-Lead Plastic Micro Small Outline Package (UN) [MSOP]; Supplier 1: Digi-Key; Supplier Part Number 1: MCP73837-FCI/UN-ND; Supplier 2: Farnell; Supplier Part Number 2: 1675426; Supplier 3: Newark; Supplier Part Number 3: 77M3068; Supplier 4: Mouser; Supplier Part Number 4: 579-MCP73837-FCI/UN; Mounting Technology: Surface Mount; ComponentLink1Description: Manufacturer URL; ComponentLink1URL: http://www.microchip.com/; ComponentLink2Description: Datasheet; ComponentLink2URL: http://ww1.microchip.com/downloads/en/DeviceDoc/22071a.pdf; ComponentLink3Description: Package Specification; ComponentLink3URL: http://www.microchip.com/stellent/groups/techpub_sg/documents/packagingspec/en012702.pdf
footprint MSOP-UN10_N (TSSOP, 10-Leads, Body 3x3mm, Pitch 0.5mm, IPC Medium Density)
footprint MSOP-UN10_L (TSSOP, 10-Leads, Body 3x3mm, Pitch 0.5mm, IPC High Density)
footprint MSOP-UN10_M (TSSOP, 10-Leads, Body 3x3mm, Pitch 0.5mm, IPC Low Density)
pins: 1 VAC (power), 2 VUSB (power), 3 STAT1 (oc), 4 STAT2 (oc), 5 VSS (power), 6 PROG1 (io), 7 PROG2 (in), 8 PG (oc), 9 THERM (io), 10 VBAT (power)

## MCP73837-FJI/MF
designator U?
Stand-Alone Li-Ion/Li-Polymer Battery Charge Management Controller with Autonomous AC-Adapter or USB-Port Source Selection, 10-Pin DFN, Industrial Temperature; Manufacturer: Microchip; PartNumber: MCP73837-FJI/MF; DatasheetVersion: revA, Nov-2007; PackageVersion: revBB, Aug-2009; PackageReference: DFN-MF10; PackageDescription: 10-Lead Plastic Dual Flat, No Lead Package (MF) - 3x3x0.9mm Body [DFN]; Supplier 1: Digi-Key; Supplier Part Number 1: MCP73837-FJI/MF-ND; Supplier 2: Newark; Supplier Part Number 2: 77M3069; Supplier 3: Mouser; Supplier Part Number 3: 579-MCP73837-FJI/MF; Mounting Technology: Surface Mount; ComponentLink1Description: Manufacturer URL; ComponentLink1URL: http://www.microchip.com/; ComponentLink2Description: Datasheet; ComponentLink2URL: http://ww1.microchip.com/downloads/en/DeviceDoc/22071a.pdf; ComponentLink3Description: Package Specification; ComponentLink3URL: http://www.microchip.com/stellent/groups/techpub_sg/documents/packagingspec/en012702.pdf
footprint DFN-MF10 (SON, 10-Leads, Body 3x3mm, Pitch 0.5mm, Microchip Recommended)
pins: 1 VAC (power), 2 VUSB (power), 3 STAT1 (oc), 4 STAT2 (oc), 5 VSS (power), 6 PROG1 (io), 7 PROG2 (in), 8 PG (oc), 9 THERM (io), 10 VBAT (power), 11 EP (power)

## MCP73837-FJI/UN
designator U?
Stand-Alone Li-Ion/Li-Polymer Battery Charge Management Controller with Autonomous AC-Adapter or USB-Port Source Selection, 10-Pin MSOP, Industrial Temperature; Manufacturer: Microchip; PartNumber: MCP73837-FJI/UN; DatasheetVersion: revA, Nov-2007; PackageVersion: revBB, Aug-2009; PackageReference: MSOP-UN10; PackageDescription: 10-Lead Plastic Micro Small Outline Package (UN) [MSOP]; Supplier 1: Digi-Key; Supplier Part Number 1: MCP73837-FJI/UN-ND; Supplier 2: Newark; Supplier Part Number 2: 77M3070; Supplier 3: Mouser; Supplier Part Number 3: 579-MCP73837-FJI/UN; Mounting Technology: Surface Mount; ComponentLink1Description: Manufacturer URL; ComponentLink1URL: http://www.microchip.com/; ComponentLink2Description: Datasheet; ComponentLink2URL: http://ww1.microchip.com/downloads/en/DeviceDoc/22071a.pdf; ComponentLink3Description: Package Specification; ComponentLink3URL: http://www.microchip.com/stellent/groups/techpub_sg/documents/packagingspec/en012702.pdf
footprint MSOP-UN10_N (TSSOP, 10-Leads, Body 3x3mm, Pitch 0.5mm, IPC Medium Density)
footprint MSOP-UN10_L (TSSOP, 10-Leads, Body 3x3mm, Pitch 0.5mm, IPC High Density)
footprint MSOP-UN10_M (TSSOP, 10-Leads, Body 3x3mm, Pitch 0.5mm, IPC Low Density)
pins: 1 VAC (power), 2 VUSB (power), 3 STAT1 (oc), 4 STAT2 (oc), 5 VSS (power), 6 PROG1 (io), 7 PROG2 (in), 8 PG (oc), 9 THERM (io), 10 VBAT (power)

## MCP73837-NVI/MF
designator U?
Stand-Alone Li-Ion/Li-Polymer Battery Charge Management Controller with Autonomous AC-Adapter or USB-Port Source Selection, 4.35V, 10-Pin DFN, Industrial Temperature; Manufacturer: Microchip; PartNumber: MCP73837-NVI/MF; DatasheetVersion: revA, Nov-2007; PackageVersion: revBB, Aug-2009; PackageReference: DFN-MF10; PackageDescription: 10-Lead Plastic Dual Flat, No Lead Package (MF) - 3x3x0.9mm Body [DFN]; Supplier 1: Digi-Key; Supplier Part Number 1: MCP73837-NVI/MF-ND; Supplier 2: Farnell; Supplier Part Number 2: 1578452; Supplier 3: Newark; Supplier Part Number 3: 77M3071; Supplier 4: Mouser; Supplier Part Number 4: 579-MCP73837-NVI/MF; Mounting Technology: Surface Mount; ComponentLink1Description: Manufacturer URL; ComponentLink1URL: http://www.microchip.com/; ComponentLink2Description: Datasheet; ComponentLink2URL: http://ww1.microchip.com/downloads/en/DeviceDoc/22071a.pdf; ComponentLink3Description: Package Specification; ComponentLink3URL: http://www.microchip.com/stellent/groups/techpub_sg/documents/packagingspec/en012702.pdf
footprint DFN-MF10 (SON, 10-Leads, Body 3x3mm, Pitch 0.5mm, Microchip Recommended)
pins: 1 VAC (power), 2 VUSB (power), 3 STAT1 (oc), 4 STAT2 (oc), 5 VSS (power), 6 PROG1 (io), 7 PROG2 (in), 8 PG (oc), 9 THERM (io), 10 VBAT (power), 11 EP (power)

## MCP73837-NVI/UN
designator U?
Stand-Alone Li-Ion/Li-Polymer Battery Charge Management Controller with Autonomous AC-Adapter or USB-Port Source Selection, 4.35V, 10-Pin MSOP, Industrial Temperature; Manufacturer: Microchip; PartNumber: MCP73837-NVI/UN; DatasheetVersion: revA, Nov-2007; PackageVersion: revBB, Aug-2009; PackageReference: MSOP-UN10; PackageDescription: 10-Lead Plastic Micro Small Outline Package (UN) [MSOP]; Supplier 1: Digi-Key; Supplier Part Number 1: MCP73837-NVI/UN-ND; Supplier 2: Mouser; Supplier Part Number 2: 579-MCP73837-NVI/UN; Mounting Technology: Surface Mount; ComponentLink1Description: Manufacturer URL; ComponentLink1URL: http://www.microchip.com/; ComponentLink2Description: Datasheet; ComponentLink2URL: http://ww1.microchip.com/downloads/en/DeviceDoc/22071a.pdf; ComponentLink3Description: Package Specification; ComponentLink3URL: http://www.microchip.com/stellent/groups/techpub_sg/documents/packagingspec/en012702.pdf
footprint MSOP-UN10_N (TSSOP, 10-Leads, Body 3x3mm, Pitch 0.5mm, IPC Medium Density)
footprint MSOP-UN10_L (TSSOP, 10-Leads, Body 3x3mm, Pitch 0.5mm, IPC High Density)
footprint MSOP-UN10_M (TSSOP, 10-Leads, Body 3x3mm, Pitch 0.5mm, IPC Low Density)
pins: 1 VAC (power), 2 VUSB (power), 3 STAT1 (oc), 4 STAT2 (oc), 5 VSS (power), 6 PROG1 (io), 7 PROG2 (in), 8 PG (oc), 9 THERM (io), 10 VBAT (power)

## MCP73837T-FCI/MF
designator U?
Stand-Alone Li-Ion/Li-Polymer Battery Charge Management Controller with Autonomous AC-Adapter or USB-Port Source Selection, 4.2V, 10-Pin DFN, Industrial Temperature, Tape and Reel; Manufacturer: Microchip; PartNumber: MCP73837T-FCI/MF; DatasheetVersion: revA, Nov-2007; PackageVersion: revBB, Aug-2009; PackageReference: DFN-MF10; PackageDescription: 10-Lead Plastic Dual Flat, No Lead Package (MF) - 3x3x0.9mm Body [DFN]; Supplier 1: Digi-Key; Supplier Part Number 1: MCP73837T-FCI/MFTR-ND; Supplier 2: Digi-Key; Supplier Part Number 2: MCP73837T-FCI/MFCT-ND; Supplier 3: Digi-Key; Supplier Part Number 3: MCP73837T-FCI/MFDKR-ND; Supplier 4: Newark; Supplier Part Number 4: 40M0757; Supplier 5: Mouser; Supplier Part Number 5: 579-MCP73837T-FCI/MF; Mounting Technology: Surface Mount; ComponentLink1Description: Manufacturer URL; ComponentLink1URL: http://www.microchip.com/; ComponentLink2Description: Datasheet; ComponentLink2URL: http://ww1.microchip.com/downloads/en/DeviceDoc/22071a.pdf; ComponentLink3Description: Package Specification; ComponentLink3URL: http://www.microchip.com/stellent/groups/techpub_sg/documents/packagingspec/en012702.pdf
footprint DFN-MF10 (SON, 10-Leads, Body 3x3mm, Pitch 0.5mm, Microchip Recommended)
pins: 1 VAC (power), 2 VUSB (power), 3 STAT1 (oc), 4 STAT2 (oc), 5 VSS (power), 6 PROG1 (io), 7 PROG2 (in), 8 PG (oc), 9 THERM (io), 10 VBAT (power), 11 EP (power)

## MCP73837T-FCI/UN
designator U?
Stand-Alone Li-Ion/Li-Polymer Battery Charge Management Controller with Autonomous AC-Adapter or USB-Port Source Selection, 4.2V, 10-Pin MSOP, Industrial Temperature, Tape and Reel; Manufacturer: Microchip; PartNumber: MCP73837T-FCI/UN; DatasheetVersion: revA, Nov-2007; PackageVersion: revBB, Aug-2009; PackageReference: MSOP-UN10; PackageDescription: 10-Lead Plastic Micro Small Outline Package (UN) [MSOP]; Supplier 1: Digi-Key; Supplier Part Number 1: MCP73837T-FCI/UN-ND; Supplier 2: Mouser; Supplier Part Number 2: 579-MCP73837T-FCI/UN; Mounting Technology: Surface Mount; ComponentLink1Description: Manufacturer URL; ComponentLink1URL: http://www.microchip.com/; ComponentLink2Description: Datasheet; ComponentLink2URL: http://ww1.microchip.com/downloads/en/DeviceDoc/22071a.pdf; ComponentLink3Description: Package Specification; ComponentLink3URL: http://www.microchip.com/stellent/groups/techpub_sg/documents/packagingspec/en012702.pdf
footprint MSOP-UN10_N (TSSOP, 10-Leads, Body 3x3mm, Pitch 0.5mm, IPC Medium Density)
footprint MSOP-UN10_L (TSSOP, 10-Leads, Body 3x3mm, Pitch 0.5mm, IPC High Density)
footprint MSOP-UN10_M (TSSOP, 10-Leads, Body 3x3mm, Pitch 0.5mm, IPC Low Density)
pins: 1 VAC (power), 2 VUSB (power), 3 STAT1 (oc), 4 STAT2 (oc), 5 VSS (power), 6 PROG1 (io), 7 PROG2 (in), 8 PG (oc), 9 THERM (io), 10 VBAT (power)

## MCP73837T-FJI/MF
designator U?
Stand-Alone Li-Ion/Li-Polymer Battery Charge Management Controller with Autonomous AC-Adapter or USB-Port Source Selection, 10-Pin DFN, Industrial Temperature, Tape and Reel; Manufacturer: Microchip; PartNumber: MCP73837T-FJI/MF; DatasheetVersion: revA, Nov-2007; PackageVersion: revBB, Aug-2009; PackageReference: DFN-MF10; PackageDescription: 10-Lead Plastic Dual Flat, No Lead Package (MF) - 3x3x0.9mm Body [DFN]; Supplier 1: Digi-Key; Supplier Part Number 1: MCP73837T-FJI/MF-ND; Supplier 2: Newark; Supplier Part Number 2: 77M3073; Supplier 3: Mouser; Supplier Part Number 3: 579-MCP73837T-FJI/MF; Mounting Technology: Surface Mount; ComponentLink1Description: Manufacturer URL; ComponentLink1URL: http://www.microchip.com/; ComponentLink2Description: Datasheet; ComponentLink2URL: http://ww1.microchip.com/downloads/en/DeviceDoc/22071a.pdf; ComponentLink3Description: Package Specification; ComponentLink3URL: http://www.microchip.com/stellent/groups/techpub_sg/documents/packagingspec/en012702.pdf
footprint DFN-MF10 (SON, 10-Leads, Body 3x3mm, Pitch 0.5mm, Microchip Recommended)
pins: 1 VAC (power), 2 VUSB (power), 3 STAT1 (oc), 4 STAT2 (oc), 5 VSS (power), 6 PROG1 (io), 7 PROG2 (in), 8 PG (oc), 9 THERM (io), 10 VBAT (power), 11 EP (power)

## MCP73837T-FJI/UN
designator U?
Stand-Alone Li-Ion/Li-Polymer Battery Charge Management Controller with Autonomous AC-Adapter or USB-Port Source Selection, 10-Pin MSOP, Industrial Temperature, Tape and Reel; Manufacturer: Microchip; PartNumber: MCP73837T-FJI/UN; DatasheetVersion: revA, Nov-2007; PackageVersion: revBB, Aug-2009; PackageReference: MSOP-UN10; PackageDescription: 10-Lead Plastic Micro Small Outline Package (UN) [MSOP]; Supplier 1: Digi-Key; Supplier Part Number 1: MCP73837T-FJI/UN-ND; Supplier 2: Mouser; Supplier Part Number 2: 579-MCP73837T-FJI/UN; Mounting Technology: Surface Mount; ComponentLink1Description: Manufacturer URL; ComponentLink1URL: http://www.microchip.com/; ComponentLink2Description: Datasheet; ComponentLink2URL: http://ww1.microchip.com/downloads/en/DeviceDoc/22071a.pdf; ComponentLink3Description: Package Specification; ComponentLink3URL: http://www.microchip.com/stellent/groups/techpub_sg/documents/packagingspec/en012702.pdf
footprint MSOP-UN10_N (TSSOP, 10-Leads, Body 3x3mm, Pitch 0.5mm, IPC Medium Density)
footprint MSOP-UN10_L (TSSOP, 10-Leads, Body 3x3mm, Pitch 0.5mm, IPC High Density)
footprint MSOP-UN10_M (TSSOP, 10-Leads, Body 3x3mm, Pitch 0.5mm, IPC Low Density)
pins: 1 VAC (power), 2 VUSB (power), 3 STAT1 (oc), 4 STAT2 (oc), 5 VSS (power), 6 PROG1 (io), 7 PROG2 (in), 8 PG (oc), 9 THERM (io), 10 VBAT (power)

## MCP73837T-NVI/MF
designator U?
Stand-Alone Li-Ion/Li-Polymer Battery Charge Management Controller with Autonomous AC-Adapter or USB-Port Source Selection, 4.35V, 10-Pin DFN, Industrial Temperature, Tape and Reel; Manufacturer: Microchip; PartNumber: MCP73837T-NVI/MF; DatasheetVersion: revA, Nov-2007; PackageVersion: revBB, Aug-2009; PackageReference: DFN-MF10; PackageDescription: 10-Lead Plastic Dual Flat, No Lead Package (MF) - 3x3x0.9mm Body [DFN]; Supplier 1: Digi-Key; Supplier Part Number 1: MCP73837T-NVI/MF-ND; Supplier 2: Farnell; Supplier Part Number 2: 1578456; Supplier 3: Farnell; Supplier Part Number 3: 1578456RL; Supplier 4: Mouser; Supplier Part Number 4: 579-MCP73837T-NVI/MF; Mounting Technology: Surface Mount; ComponentLink1Description: Manufacturer URL; ComponentLink1URL: http://www.microchip.com/; ComponentLink2Description: Datasheet; ComponentLink2URL: http://ww1.microchip.com/downloads/en/DeviceDoc/22071a.pdf; ComponentLink3Description: Package Specification; ComponentLink3URL: http://www.microchip.com/stellent/groups/techpub_sg/documents/packagingspec/en012702.pdf
footprint DFN-MF10 (SON, 10-Leads, Body 3x3mm, Pitch 0.5mm, Microchip Recommended)
pins: 1 VAC (power), 2 VUSB (power), 3 STAT1 (oc), 4 STAT2 (oc), 5 VSS (power), 6 PROG1 (io), 7 PROG2 (in), 8 PG (oc), 9 THERM (io), 10 VBAT (power), 11 EP (power)

## MCP73837T-NVI/UN
designator U?
Stand-Alone Li-Ion/Li-Polymer Battery Charge Management Controller with Autonomous AC-Adapter or USB-Port Source Selection, 4.35V, 10-Pin MSOP, Industrial Temperature, Tape and Reel; Manufacturer: Microchip; PartNumber: MCP73837T-NVI/UN; DatasheetVersion: revA, Nov-2007; PackageVersion: revBB, Aug-2009; PackageReference: MSOP-UN10; PackageDescription: 10-Lead Plastic Micro Small Outline Package (UN) [MSOP]; Supplier 1: Digi-Key; Supplier Part Number 1: MCP73837T-NVI/UNTR-ND; Supplier 2: Mouser; Supplier Part Number 2: 579-MCP73837T-NVI/UN; Mounting Technology: Surface Mount; ComponentLink1Description: Manufacturer URL; ComponentLink1URL: http://www.microchip.com/; ComponentLink2Description: Datasheet; ComponentLink2URL: http://ww1.microchip.com/downloads/en/DeviceDoc/22071a.pdf; ComponentLink3Description: Package Specification; ComponentLink3URL: http://www.microchip.com/stellent/groups/techpub_sg/documents/packagingspec/en012702.pdf
footprint MSOP-UN10_N (TSSOP, 10-Leads, Body 3x3mm, Pitch 0.5mm, IPC Medium Density)
footprint MSOP-UN10_L (TSSOP, 10-Leads, Body 3x3mm, Pitch 0.5mm, IPC High Density)
footprint MSOP-UN10_M (TSSOP, 10-Leads, Body 3x3mm, Pitch 0.5mm, IPC Low Density)
pins: 1 VAC (power), 2 VUSB (power), 3 STAT1 (oc), 4 STAT2 (oc), 5 VSS (power), 6 PROG1 (io), 7 PROG2 (in), 8 PG (oc), 9 THERM (io), 10 VBAT (power)